# Altium schematic symbol library IC.SchLib: 138 symbols (part 2 of 2)
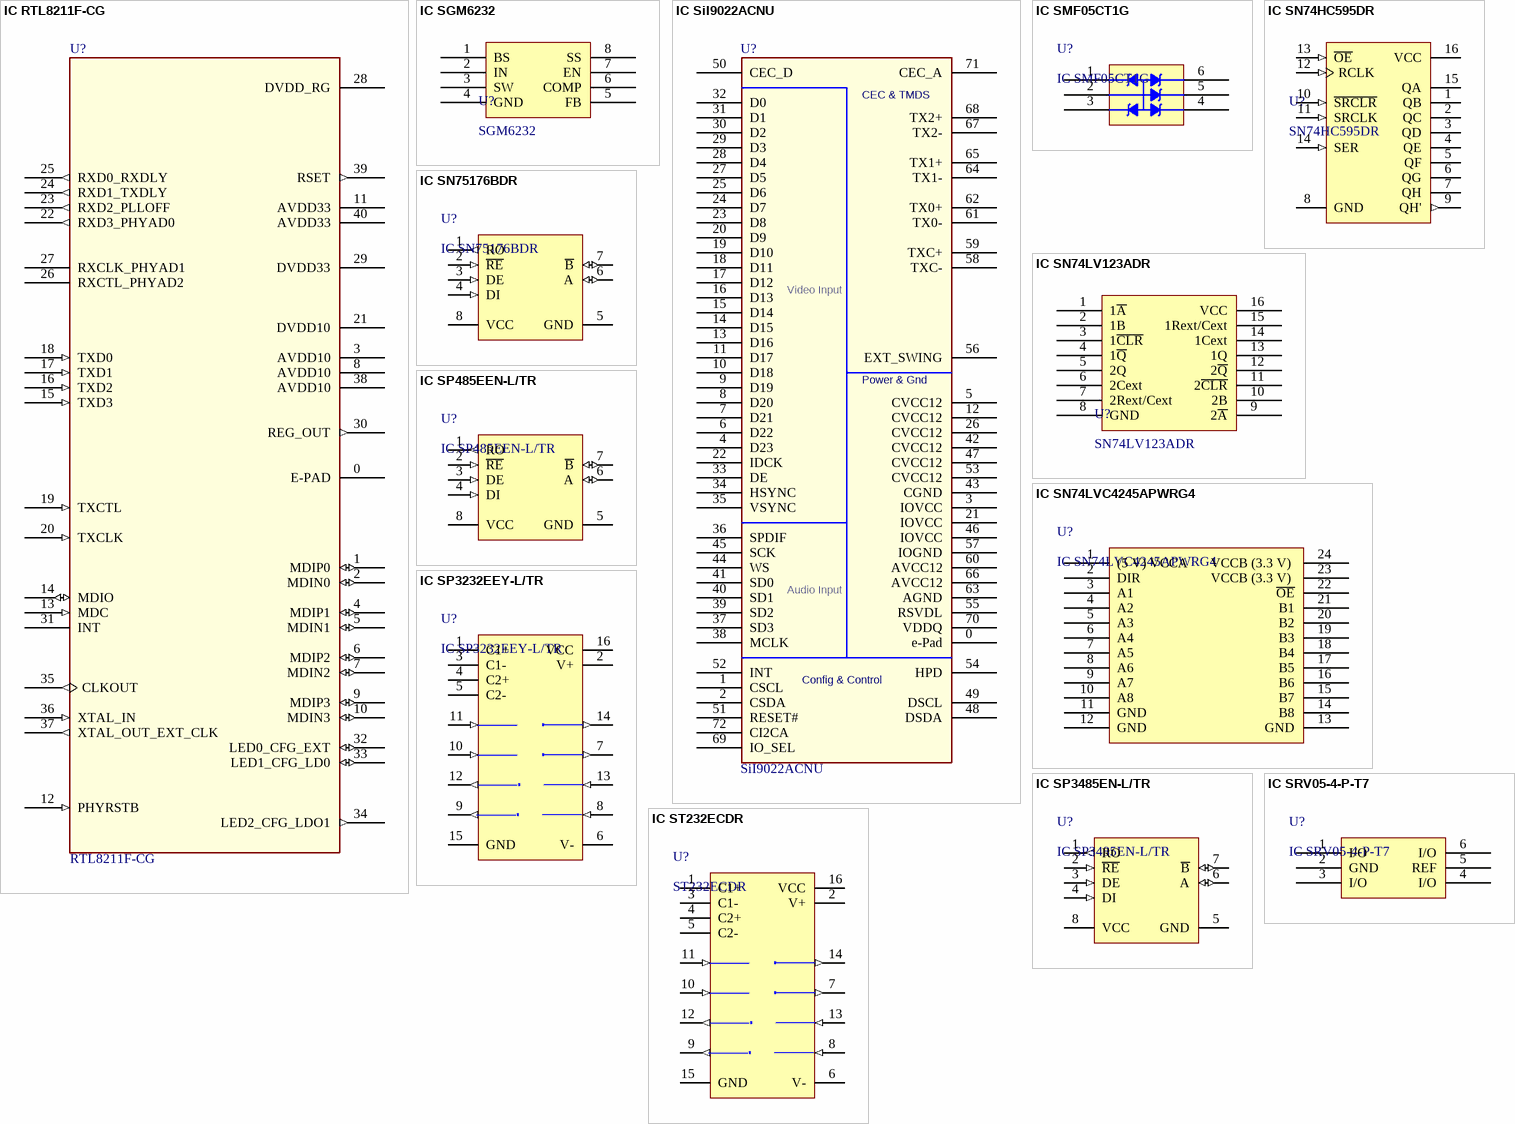
[diagram p7: symbols IC RTL8211F-CG to IC ST232ECDR]

## IC SN74LV123ADR
designator U?, comment SN74LV123ADR
74系列逻辑芯片; ComponentLink1Description: 供应商链接; ComponentLink1URL: http://www.szlcsc.com/product/details_8336.html; Package: TSSOP-24; Supplier: LC; SuppliersPartNumber: C7859
footprint SOIC16_150mil
pins: 1 1~{A}, 2 1B, 3 1~{CLR}, 4 1~{Q}, 5 2Q, 6 2Cext, 7 2Rext/Cext, 8 GND, 9 2~{A}, 10 2B, 11 2~{CLR}, 12 2~{Q}, 13 1Q, 14 1Cext, 15 1Rext/Cext, 16 VCC

## IC SN74LVC4245APWRG4
designator U?
74系列逻辑芯片; ComponentLink1Description: 供应商链接; ComponentLink1URL: http://www.szlcsc.com/product/details_8336.html; Package: TSSOP-24; Supplier: LC; SuppliersPartNumber: C7859
footprint TSSOP24
pins: 1 (5 V) VCCA, 2 DIR, 3 A1, 4 A2, 5 A3, 6 A4, 7 A5, 8 A6, 9 A7, 10 A8, 11 GND, 12 GND, 13 GND, 14 B8, 15 B7, 16 B6, 17 B5, 18 B4, 19 B3, 20 B2, 21 B1, 22 ~{OE}, 23 VCCB (3.3 V) , 24 VCCB (3.3 V) 

## IC SN75176BDR
designator U?
RS-485/RS-422; ComponentLink1Description: 供应商链接; ComponentLink1URL: http://www.szlcsc.com/product/details_7535.html; Package: SOIC-8_150mil; Supplier: LC; SuppliersPartNumber: C7063
footprint SOIC8_150mil
pins: 1 RO (out), 2 ~{RE} (in), 3 DE (in), 4 DI (in), 5 GND (power), 6 A (io), 7 ~{B} (io), 8 VCC (power)

## IC SP485EEN-L/TR
designator U?
RS-485/RS-422; ComponentLink1Description: 供应商链接; ComponentLink1URL: http://www.szlcsc.com/product/details_7327.html; Package: SOIC-8; Supplier: LC; SuppliersPartNumber: C6855
footprint SOIC8_150mil
pins: 1 RO (out), 2 ~{RE} (in), 3 DE (in), 4 DI (in), 5 GND (power), 6 A (io), 7 ~{B} (io), 8 VCC (power)

## IC SP3232EEY-L/TR
designator U?
RS232; ComponentLink1Description: 供应商链接; ComponentLink1URL: http://www.szlcsc.com/product/details_14131.html; Package: TSSOP-16; Supplier: LC; SuppliersPartNumber: C13482
footprint TSSOP16
pins: 1 C1+, 2 V+ (power), 3 C1-, 4 C2+, 5 C2-, 6 V- (power), 7 T2OUT (out), 8 R2IN (in), 9 R2OUT (out), 10 T2IN (in), 11 T1IN (in), 12 R1OUT (out), 13 R1IN (in), 14 T1OUT (out), 15 GND (power), 16 VCC (power)

## IC SP3485EN-L/TR
designator U?
RS-485/RS-422; ComponentLink1Description: 供应商链接; ComponentLink1URL: http://www.szlcsc.com/product/details_9482.html; Package: SOIC-8; Supplier: LC; SuppliersPartNumber: C8963
footprint SOIC8_150mil
pins: 1 RO (out), 2 ~{RE} (in), 3 DE (in), 4 DI (in), 5 GND (power), 6 A (io), 7 ~{B} (io), 8 VCC (power)

## IC SRV05-4-P-T7
designator U?
TVS; ComponentLink1Description: 供应商链接; ComponentLink1URL: http://www.szlcsc.com/product/details_86537.html; Package: SOT-23-6; Supplier: LC; SuppliersPartNumber: C85364
footprint SOT23-6
pins: 1 I/O , 2 GND, 3 I/O, 4 I/O, 5 REF, 6 I/O

## IC ST232ECDR
designator U?, comment ST232ECDR
RS232; ComponentLink1Description: 供应商链接; ComponentLink1URL: http://www.szlcsc.com/product/details_14131.html; Package: TSSOP-16; Supplier: LC; SuppliersPartNumber: C13482
footprint SOIC16_150mil
pins: 1 C1+, 2 V+ (power), 3 C1-, 4 C2+, 5 C2-, 6 V- (power), 7 T2OUT (out), 8 R2IN (in), 9 R2OUT (out), 10 T2IN (in), 11 T1IN (in), 12 R1OUT (out), 13 R1IN (in), 14 T1OUT (out), 15 GND (power), 16 VCC (power)

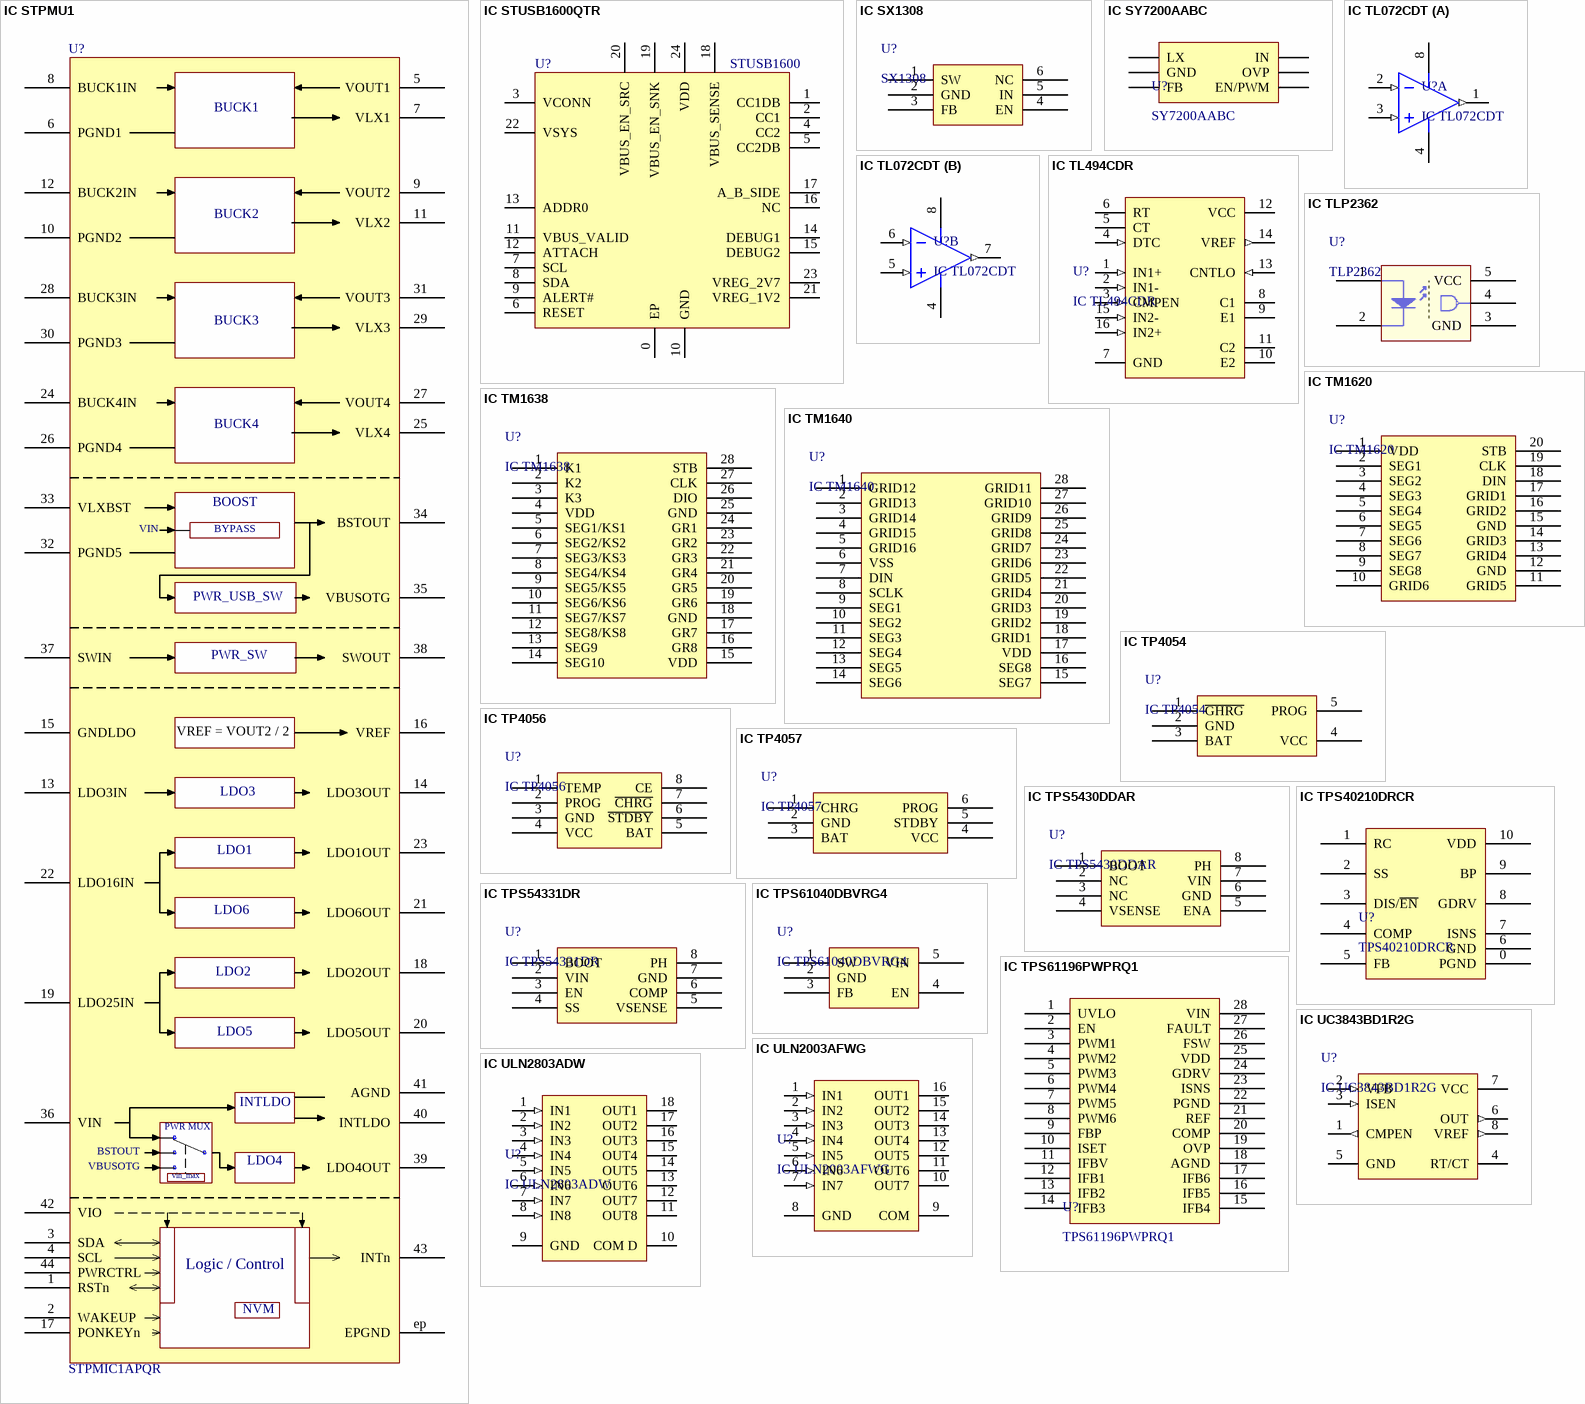
[diagram p5: symbols IC STPMU1 to IC ULN2803ADW]

## IC STPMU1
designator U?, comment value STPMIC1APQR  (hidden comment: STPMU1)
专业电源管理; Internal_Part_Number: MCD-01650; Part_Type: IC; Manufacturer: STMICROELECTRONICS; Provided_By: SUBCO with ST control; Status: Footprint available; Manufacturer_Part_Number: STPMIC1APQR; Package: WFQFN 5.0x6.0x0.80mm; ComponentLink1Description: Datasheet; ComponentLink1URL: http://tunmcdsvn.tun.st.com/Component_Datasheet_Library/Trunk/IC/STM_PMIC_LuftBurg_5x6_44L_20_01_2016
footprint WFQFN44 5X6 EP
pins: 1 RSTn, 2 WAKEUP, 3 SDA, 4 SCL, 5 VOUT1, 6 PGND1, 7 VLX1, 8 BUCK1IN, 9 VOUT2, 10 PGND2, 11 VLX2, 12 BUCK2IN, 13 LDO3IN, 14 LDO3OUT, 15 GNDLDO, 16 VREF, 17 PONKEYn, 18 LDO2OUT, 19 LDO25IN, 20 LDO5OUT, 21 LDO6OUT, 22 LDO16IN, 23 LDO1OUT, 24 BUCK4IN, 25 VLX4, 26 PGND4, 27 VOUT4, 28 BUCK3IN, 29 VLX3, 30 PGND3, 31 VOUT3, 32 PGND5, 33 VLXBST, 34 BSTOUT, 35 VBUSOTG, 36 VIN, 37 SWIN, 38 SWOUT, 39 LDO4OUT, 40 INTLDO, 41 AGND, 42 VIO, 43 INTn, 44 PWRCTRL, ep EPGND
text: BUCK1; BUCK2; BUCK3; BUCK4; BOOST; BYPASS; PWR_USB_SW; PWR_SW; VREF = VOUT2 / 2; LDO3; LDO1; LDO6; LDO2; LDO5; PWR MUX; LDO4; vin_max; Logic / Control; NVM

## IC STUSB1600QTR
designator U?, comment value STUSB1600  (hidden comment: STUSB1600QTR)
USB Type-C; Internal_Part_Number: MCD-00676; Part_Type: IC; Manufacturer_Part_Number: STUSB1600AQTR; Manufacturer: STMICROELECTRONICS; BMS_Part_Number: 9158053; Provided_By: SUBCO with ST control; Initial_Board_Reference: MB1272; Status: Footprint available; ECCN_US: n/a; ECCN_EU: n/a
footprint QFN24 4X4
pins: 0 EP "Ground", 1 CC1DB "Dead battery enable on CC1 pin", 2 CC1 "Type-C configuration channel 1", 3 VCONN "Power input for active plug", 4 CC2 "Type-C configuration channel 2", 5 CC2DB "Dead battery enable on CC2 pin", 6 RESET "Reset input (active high)", 7 SCL "I2C clock input", 8 SDA "I2C data input/output, active low open drain", 9 ALERT# "I2C interrupt, active low open drain", 10 GND "Ground", 11 VBUS_VALID "VBUS detection, active low open drain", 12 ATTACH "Attachment detection, active low open drain", 13 ADDR0 ""I²C device address setting (see", 14 DEBUG1 "Debug accessory device detection in sink power role, active low open drain", 15 DEBUG2 "Debug accessory device detection in source power role, active low open drain", 16 NC "—", 17 A_B_SIDE "Cable orientation, active low open drain", 18 VBUS_SENSE "VBUS voltage monitoring and discharge path", 19 VBUS_EN_SNK "VBUS sink power path enable, active low open drain", 20 VBUS_EN_SRC "VBUS source power path enable, active low open drain", 21 VREG_1V2 "1.2 V internal regulator output", 22 VSYS "Power supply from system", 23 VREG_2V7 "2.7 V internal regulator output", 24 VDD "Power supply from USB power line"

## IC SX1308
designator U?, comment SX1308
DC-DC芯片; ComponentLink1Description: 供应商链接; ComponentLink1URL: http://www.szlcsc.com/product/details_14870.html; Package: SOT-23-6; Supplier: LC; SuppliersPartNumber: C14213
footprint SOT23-6
pins: 1 SW, 2 GND, 3 FB, 4 EN, 5 IN, 6 NC

## IC SY7200AABC
designator U?, comment SY7200AABC
LED驱动
footprint SOT23-6
pins: 1 LX, 2 GND, 3 FB, 4 EN/PWM, 5 OVP, 6 IN

## IC TL072CDT
designator U?
运放; ComponentLink1Description: 供应商链接; ComponentLink1URL: http://www.szlcsc.com/product/details_7433.html; Package: SOIC-8_150mil; Supplier: LC; SuppliersPartNumber: C6961
footprint SOIC8_150mil
pins on every part: 4 V- (power), 8 V+ (power)
part A pins: 1 OUT (out), 2 IN- (in), 3 IN+ (in)
part B pins: 5 IN+ (in), 6 IN- (in), 7 OUT (out)

## IC TL494CDR
designator U?
开关电源; ComponentLink1Description: 供应商链接; ComponentLink1URL: http://www.szlcsc.com/product/details_20591.html; Package: SOIC-16_150mil; Supplier: LC; SuppliersPartNumber: C19882
footprint SOIC16_150mil
pins: 1 IN1+ (in), 2 IN1- (in), 3 CMPEN (in), 4 DTC (in), 5 CT, 6 RT, 7 GND (power), 8 C1, 9 E1, 10 E2, 11 C2, 12 VCC (power), 13 CNTLO (in), 14 VREF (out), 15 IN2- (in), 16 IN2+ (in)

## IC TLP2362
designator U?, comment TLP2362
贴片光耦; Package: SMD-8_6.3mm; Supplier: LC; SuppliersPartNumber: C16496; ComponentLink1Description: 立创商城链接; ComponentLink1URL: https://item.szlcsc.com/38638.html
footprint SOP5_150MIL
pins: 1, 2 K "Cathode", 3 GND (power), 4 VO, 5 VCC (power)

## IC TM1620
designator U?
LED驱动; ComponentLink1Description: 供应商链接; ComponentLink1URL: http://www.szlcsc.com/product/details_20288.html; Package: SOIC-20_300mil; Supplier: LC; SuppliersPartNumber: C19579
footprint SOIC20_300mil
pins: 1 VDD, 2 SEG1, 3 SEG2, 4 SEG3, 5 SEG4, 6 SEG5, 7 SEG6, 8 SEG7, 9 SEG8, 10 GRID6, 11 GRID5, 12 GND, 13 GRID4, 14 GRID3, 15 GND, 16 GRID2, 17 GRID1, 18 DIN, 19 CLK, 20 STB

## IC TM1638
designator U?
LED驱动; ComponentLink1Description: 供应商链接; ComponentLink1URL: http://www.szlcsc.com/product/details_19892.html; Package: SOIC-28_300mil; Supplier: LC; SuppliersPartNumber: C19187
footprint SOIC28_300mil
pins: 1 K1, 2 K2, 3 K3, 4 VDD, 5 SEG1/KS1, 6 SEG2/KS2, 7 SEG3/KS3, 8 SEG4/KS4, 9 SEG5/KS5, 10 SEG6/KS6, 11 SEG7/KS7, 12 SEG8/KS8, 13 SEG9, 14 SEG10, 15 VDD, 16 GR8, 17 GR7, 18 GND, 19 GR6, 20 GR5, 21 GR4, 22 GR3, 23 GR2, 24 GR1, 25 GND, 26 DIO, 27 CLK, 28 STB

## IC TM1640
designator U?
LED驱动; ComponentLink1Description: 供应商链接; ComponentLink1URL: http://www.szlcsc.com/product/details_42311.html; Package: SOP-28_300mil; Supplier: LC; SuppliersPartNumber: C41327
footprint SOP28_300mil
pins: 1 GRID12, 2 GRID13, 3 GRID14, 4 GRID15, 5 GRID16, 6 VSS, 7 DIN, 8 SCLK, 9 SEG1, 10 SEG2, 11 SEG3, 12 SEG4, 13 SEG5, 14 SEG6, 15 SEG7, 16 SEG8, 17 VDD, 18 GRID1, 19 GRID2, 20 GRID3, 21 GRID4, 22 GRID5, 23 GRID6, 24 GRID7, 25 GRID8, 26 GRID9, 27 GRID10, 28 GRID11

## IC TP4054
designator U?
电池电源管理; ComponentLink1Description: 供应商链接; ComponentLink1URL: http://www.szlcsc.com/product/details_33539.html; Package: SOT-23-5; Supplier: LC; SuppliersPartNumber: C32574
footprint SOT23-5
pins: 1 ~{GHRG}, 2 GND, 3 BAT, 4 VCC, 5 PROG

## IC TP4056
designator U?
电池电源管理; ComponentLink1Description: 供应商链接; ComponentLink1URL: http://www.szlcsc.com/product/details_17264.html; Package: SOP-8_EP_150mil; Supplier: LC; SuppliersPartNumber: C16581
footprint SOP8_150mil_EP
pins: 1 TEMP, 2 PROG, 3 GND, 4 VCC, 5 BAT, 6 ~{STDBY}, 7 ~{CHRG}, 8 CE

## IC TP4057
designator U?
电池电源管理; ComponentLink1Description: 供应商链接; ComponentLink1URL: http://www.szlcsc.com/product/details_12599.html; Package: SOT-23-6; Supplier: LC; SuppliersPartNumber: C12044
footprint SOT23-6
pins: 1 CHRG, 2 GND, 3 BAT, 4 VCC, 5 STDBY, 6 PROG

## IC TPS5430DDAR
designator U?
DC-DC芯片; ComponentLink1Description: 供应商链接; ComponentLink1URL: http://www.szlcsc.com/product/details_10396.html; Package: SOP-8_EP_150mil; Supplier: LC; SuppliersPartNumber: C9864
footprint SOP8_150mil_EP
pins: 1 BOOT, 2 NC, 3 NC, 4 VSENSE, 5 ENA, 6 GND, 7 VIN, 8 PH

## IC TPS40210DRCR
designator U?, comment TPS40210DRCR
DC-DC芯片; ComponentLink1Description: 供应商链接; ComponentLink1URL: http://www.szlcsc.com/product/details_10396.html; Package: SOP-8_EP_150mil; Supplier: LC; SuppliersPartNumber: C9864
footprint VSON10
pins: 0 PGND, 1 RC, 2 SS, 3 DIS/~{EN}, 4 COMP, 5 FB, 6 GND, 7 ISNS, 8 GDRV, 9 BP, 10 VDD

## IC TPS54331DR
designator U?
DC-DC芯片; ComponentLink1Description: 供应商链接; ComponentLink1URL: http://www.szlcsc.com/product/details_10397.html; Package: SOIC-8_150mil; Supplier: LC; SuppliersPartNumber: C9865
footprint SOIC8_150mil
pins: 1 BOOT, 2 VIN, 3 EN, 4 SS, 5 VSENSE, 6 COMP, 7 GND, 8 PH

## IC TPS61040DBVRG4
designator U?
DC-DC芯片; ComponentLink1Description: 供应商链接; ComponentLink1URL: http://www.szlcsc.com/product/details_8199.html; Package: SOT-23-5; Supplier: LC; SuppliersPartNumber: C7722
footprint SOT23-5
pins: 1 SW, 2 GND, 3 FB, 4 EN, 5 VIN

## IC TPS61196PWPRQ1
designator U?, comment TPS61196PWPRQ1
LED升压型驱动; ComponentLink1Description: 供应商链接; ComponentLink1URL: http://www.szlcsc.com/product/details_10538.html; Package: TO-263-5; Supplier: LC; SuppliersPartNumber: C10002
footprint HTSSOP28
pins: 1 UVLO, 2 EN, 3 PWM1, 4 PWM2, 5 PWM3, 6 PWM4, 7 PWM5, 8 PWM6, 9 FBP, 10 ISET, 11 IFBV, 12 IFB1, 13 IFB2, 14 IFB3, 15 IFB4, 16 IFB5, 17 IFB6, 18 AGND, 19 OVP, 20 COMP, 21 REF, 22 PGND, 23 ISNS, 24 GDRV, 25 VDD, 26 FSW, 27 FAULT, 28 VIN

## IC UC3843BD1R2G
designator U?
开关电源; ComponentLink1Description: 供应商链接; ComponentLink1URL: http://www.szlcsc.com/product/details_17096.html; Package: SOIC-8_150mil; Supplier: LC; SuppliersPartNumber: C16414
footprint SOIC8_150mil
pins: 1 CMPEN (out), 2 VFB (in), 3 ISEN (in), 4 RT/CT, 5 GND (power), 6 OUT (out), 7 VCC (power), 8 VREF (out)

## IC ULN2003AFWG
designator U?
大电流驱动; ComponentLink1Description: 供应商链接; ComponentLink1URL: http://www.szlcsc.com/product/details_5880.html; Package: SOIC-16_150mil; Supplier: LC; SuppliersPartNumber: C5437
footprint SOIC16_150mil
pins: 1 IN1 (in), 2 IN2 (in), 3 IN3 (in), 4 IN4 (in), 5 IN5 (in), 6 IN6 (in), 7 IN7 (in), 8 GND (power), 9 COM, 10 OUT7 (oc), 11 OUT6 (oc), 12 OUT5 (oc), 13 OUT4 (oc), 14 OUT3 (oc), 15 OUT2 (oc), 16 OUT1 (oc)

## IC ULN2803ADW
designator U?
大电流驱动; ComponentLink1Description: 供应商链接; ComponentLink1URL: http://www.szlcsc.com/product/details_10213.html; Package: SOIC-18_300mil; Supplier: LC; SuppliersPartNumber: C9683
footprint SOIC18_300mil
pins: 1 IN1 (in), 2 IN2 (in), 3 IN3 (in), 4 IN4 (in), 5 IN5 (in), 6 IN6 (in), 7 IN7 (in), 8 IN8 (in), 9 GND (power), 10 COM D, 11 OUT8 (oc), 12 OUT7 (oc), 13 OUT6 (oc), 14 OUT5 (oc), 15 OUT4 (oc), 16 OUT3 (oc), 17 OUT2 (oc), 18 OUT1 (oc)

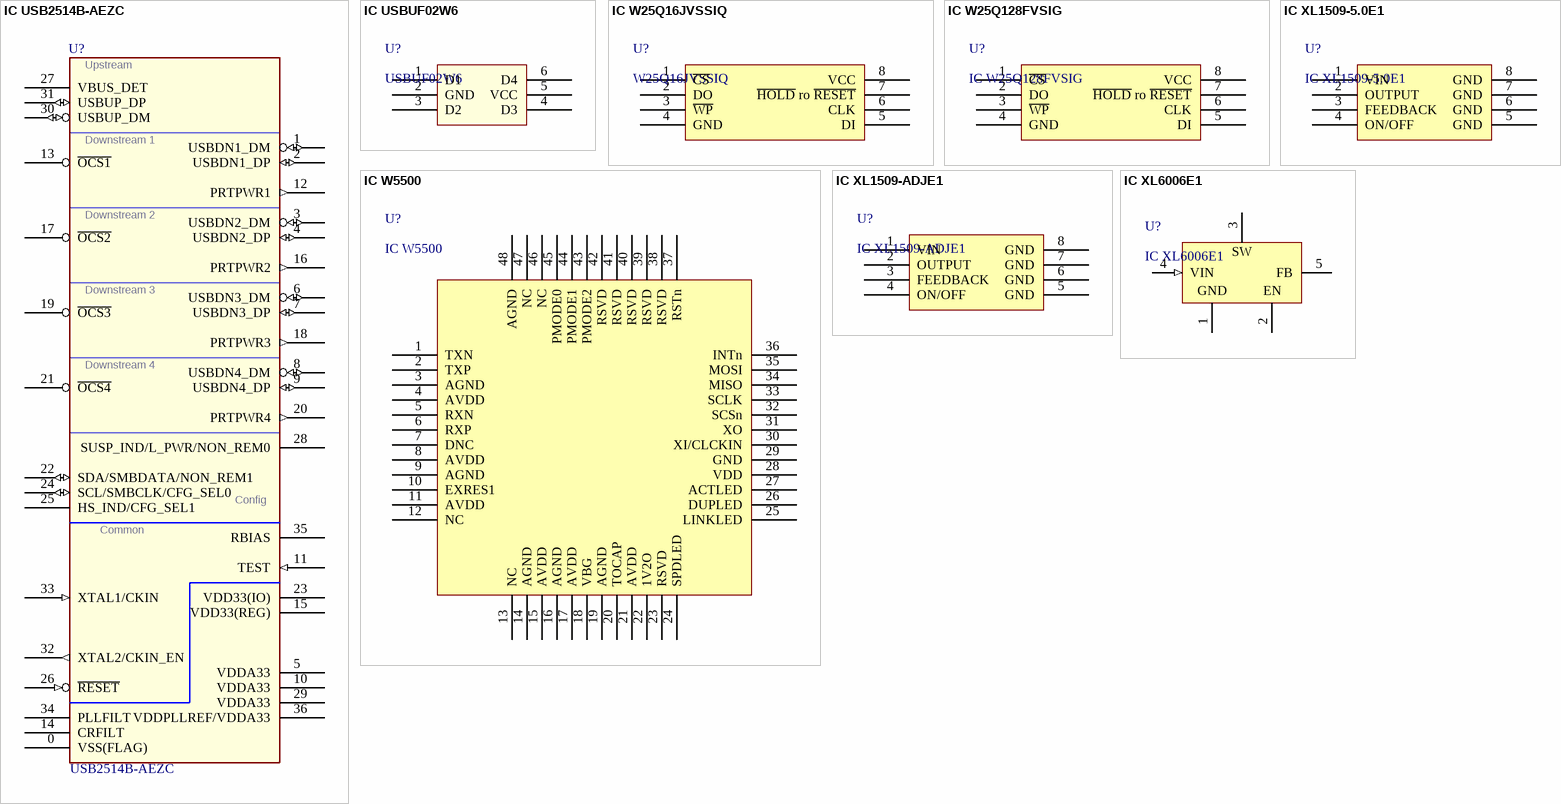
[diagram p6: symbols IC USB2514B-AEZC to IC XL6006E1]

## IC USB2514B-AEZC
designator U?, comment USB2514B-AEZC
USB HUB 2.0 Controller; Internal_Part_Number: MCD-00145; Manufacturer: MICROCHIP; Part_Type: IC; ECCN_US: EAR99; ECCN_EU: NEC; Provided_By: SUBCO; Initial_Board_Reference: MB1262; Manufacturer_Part_Number: USB2514B-AEZC; Status: Released; Value: USB2514B-AEZC
footprint QFN36 6X6
pins: 0 VSS(FLAG) (power), 1 USBDN1_DM (io), 2 USBDN1_DP (io), 3 USBDN2_DM (io), 4 USBDN2_DP (io), 5 VDDA33 (power), 6 USBDN3_DM (io), 7 USBDN3_DP (io), 8 USBDN4_DM (io), 9 USBDN4_DP (io), 10 VDDA33 (power), 11 TEST (in), 12 PRTPWR1 (out), 13 ~{OCS1}, 14 CRFILT (power), 15 VDD33(REG) (power), 16 PRTPWR2 (out), 17 ~{OCS2}, 18 PRTPWR3 (out), 19 ~{OCS3}, 20 PRTPWR4 (out), 21 ~{OCS4}, 22 SDA/SMBDATA/NON_REM1 (io), 23 VDD33(IO) (power), 24 SCL/SMBCLK/CFG_SEL0 (io), 25 HS_IND/CFG_SEL1, 26 ~{RESET} (in), 27 VBUS_DET, 28 SUSP_IND/L_PWR/NON_REM0, 29 VDDA33 (power), 30 USBUP_DM (io), 31 USBUP_DP (io), 32 XTAL2/CKIN_EN (out), 33 XTAL1/CKIN (in), 34 PLLFILT (power), 35 RBIAS, 36 VDDPLLREF/VDDA33 (power)
text: Upstream; Downstream 1; Downstream 2; Downstream 3; Downstream 4; Config; Common

## IC USBUF02W6
designator U?, comment USBUF02W6
USB ESD; Package: SOIC-8_150mil; Supplier: LC; SuppliersPartNumber: C9669; ComponentLink1Description: 立创商城链接; ComponentLink1URL: https://item.szlcsc.com/76058.html
footprint SOT23-6
pins: 1 D1, 2 GND, 3 D2, 4 D3, 5 VCC, 6 D4

## IC W25Q16JVSSIQ
designator U?, comment W25Q16JVSSIQ
Flash ROM; Package: SOIC-8; Supplier: LC; SuppliersPartNumber: C35101; ComponentLink1Description: 立创商城链接; ComponentLink1URL: https://item.szlcsc.com/83474.html
footprint SOIC8_208mil
pins: 1 ~{CS}, 2 DO, 3 ~{WP}, 4 GND, 5 DI, 6 CLK, 7 ~{HOLD} ro ~{RESET}, 8 VCC

## IC W25Q128FVSIG
designator U?
Flash ROM; ComponentLink1Description: 供应商链接; ComponentLink1URL: http://www.szlcsc.com/product/details_36072.html; Package: SOIC-8; Supplier: LC; SuppliersPartNumber: C35101
footprint SOIC8_208mil
pins: 1 ~{CS}, 2 DO, 3 ~{WP}, 4 GND, 5 DI, 6 CLK, 7 ~{HOLD} ro ~{RESET}, 8 VCC

## IC W5500
designator U?
以太网; ComponentLink1Description: 供应商链接; ComponentLink1URL: http://www.szlcsc.com/product/details_33808.html; Package: LQFP-48_7x7x05P; Supplier: LC; SuppliersPartNumber: C32843
footprint LQFP48 7x7
pins: 1 TXN, 2 TXP, 3 AGND, 4 AVDD, 5 RXN, 6 RXP, 7 DNC, 8 AVDD, 9 AGND, 10 EXRES1, 11 AVDD, 12 NC, 13 NC, 14 AGND, 15 AVDD, 16 AGND, 17 AVDD, 18 VBG, 19 AGND, 20 TOCAP, 21 AVDD, 22 1V2O, 23 RSVD, 24 SPDLED, 25 LINKLED, 26 DUPLED, 27 ACTLED, 28 VDD, 29 GND, 30 XI/CLCKIN, 31 XO, 32 SCSn, 33 SCLK, 34 MISO, 35 MOSI, 36 INTn, 37 RSTn, 38 RSVD, 39 RSVD, 40 RSVD, 41 RSVD, 42 RSVD, 43 PMODE2, 44 PMODE1, 45 PMODE0, 46 NC, 47 NC, 48 AGND

## IC XL1509-5.0E1
designator U?
DC-DC芯片; ComponentLink1Description: 供应商链接; ComponentLink1URL: http://www.szlcsc.com/product/details_62115.html; Package: SOP-8_150mil; Supplier: LC; SuppliersPartNumber: C61063
footprint SOP8_150mil
pins: 1 VIN , 2 OUTPUT , 3 FEEDBACK , 4 ON/OFF , 5  GND, 6  GND, 7 GND, 8 GND

## IC XL1509-ADJE1
designator U?
DC-DC芯片; ComponentLink1Description: 供应商链接; ComponentLink1URL: http://www.szlcsc.com/product/details_75311.html; Package: SOP-8_150mil; Supplier: LC; SuppliersPartNumber: C74192
footprint SOP8_150mil
pins: 1 VIN , 2 OUTPUT , 3 FEEDBACK , 4 ON/OFF , 5  GND, 6  GND, 7 GND, 8 GND

## IC XL6006E1
designator U?
LED升压型驱动; ComponentLink1Description: 供应商链接; ComponentLink1URL: http://www.szlcsc.com/product/details_10538.html; Package: TO-263-5; Supplier: LC; SuppliersPartNumber: C10002
footprint TO263-5A (263，5脚晶体管)
pins: 1 GND (power), 2 EN (power), 3 SW (power), 4 VIN (in), 5 FB